# EAGLE library part BQ24773 (library calsat)
BQ24773 Li-ion and LiPo charging IC
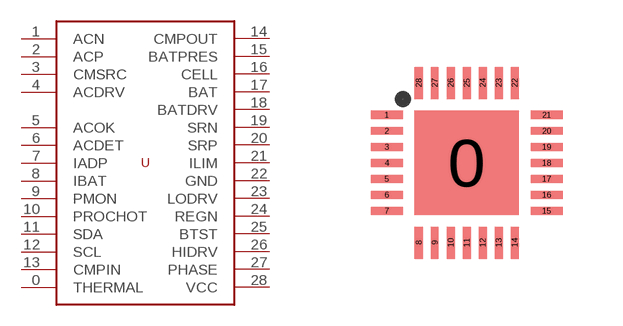
[diagram p1: symbol with the pads of WQFN28; footprint WQFN28]

Designator prefix -

## BQ24773  [WQFN28]
0  THERMAL
1  ACN
2  ACP
3  CMSRC
4  ACDRV
5  ACOK
6  ACDET
7  IADP
8  IBAT
9  PMON
10  PROCHOT
11  SDA
12  SCL
13  CMPIN
14  CMPOUT
15  BATPRES
16  CELL
17  BAT
18  BATDRV
19  SRN
20  SRP
21  ILIM
22  GND
23  LODRV
24  REGN
25  BTST
26  HIDRV
27  PHASE
28  VCC

## Footprint WQFN28 (pad centres in mm)
smd 2.6 x 2.6: 0 0,0
smd 0.8 x 0.2: 1 -2,1.2; 2 -2,0.8; 3 -2,0.4; 4 -2,0; 5 -2,-0.4; 6 -2,-0.8; 7 -2,-1.2; 15 2,-1.2; 16 2,-0.8; 17 2,-0.4; 18 2,0; 19 2,0.4; 20 2,0.8; 21 2,1.2
smd 0.2 x 0.8: 8 -1.2,-2; 9 -0.8,-2; 10 -0.4,-2; 11 0,-2; 12 0.4,-2; 13 0.8,-2; 14 1.2,-2; 22 1.2,2; 23 0.8,2; 24 0.4,2; 25 0,2; 26 -0.4,2; 27 -0.8,2; 28 -1.2,2